# Altium footprint library PCB RADAR.PcbLib: 19 footprints (part 1 of 2)
Each footprint in its own frame and in the unit in brackets; x right, y up, seen from the top. Pads: shape width x height; smd on the part's side, far side on the other; paste and mask are expansions set on the pad; w line width, h text height; cw(c..) or ccw(c..) is an arc to the next point about the centre after c.
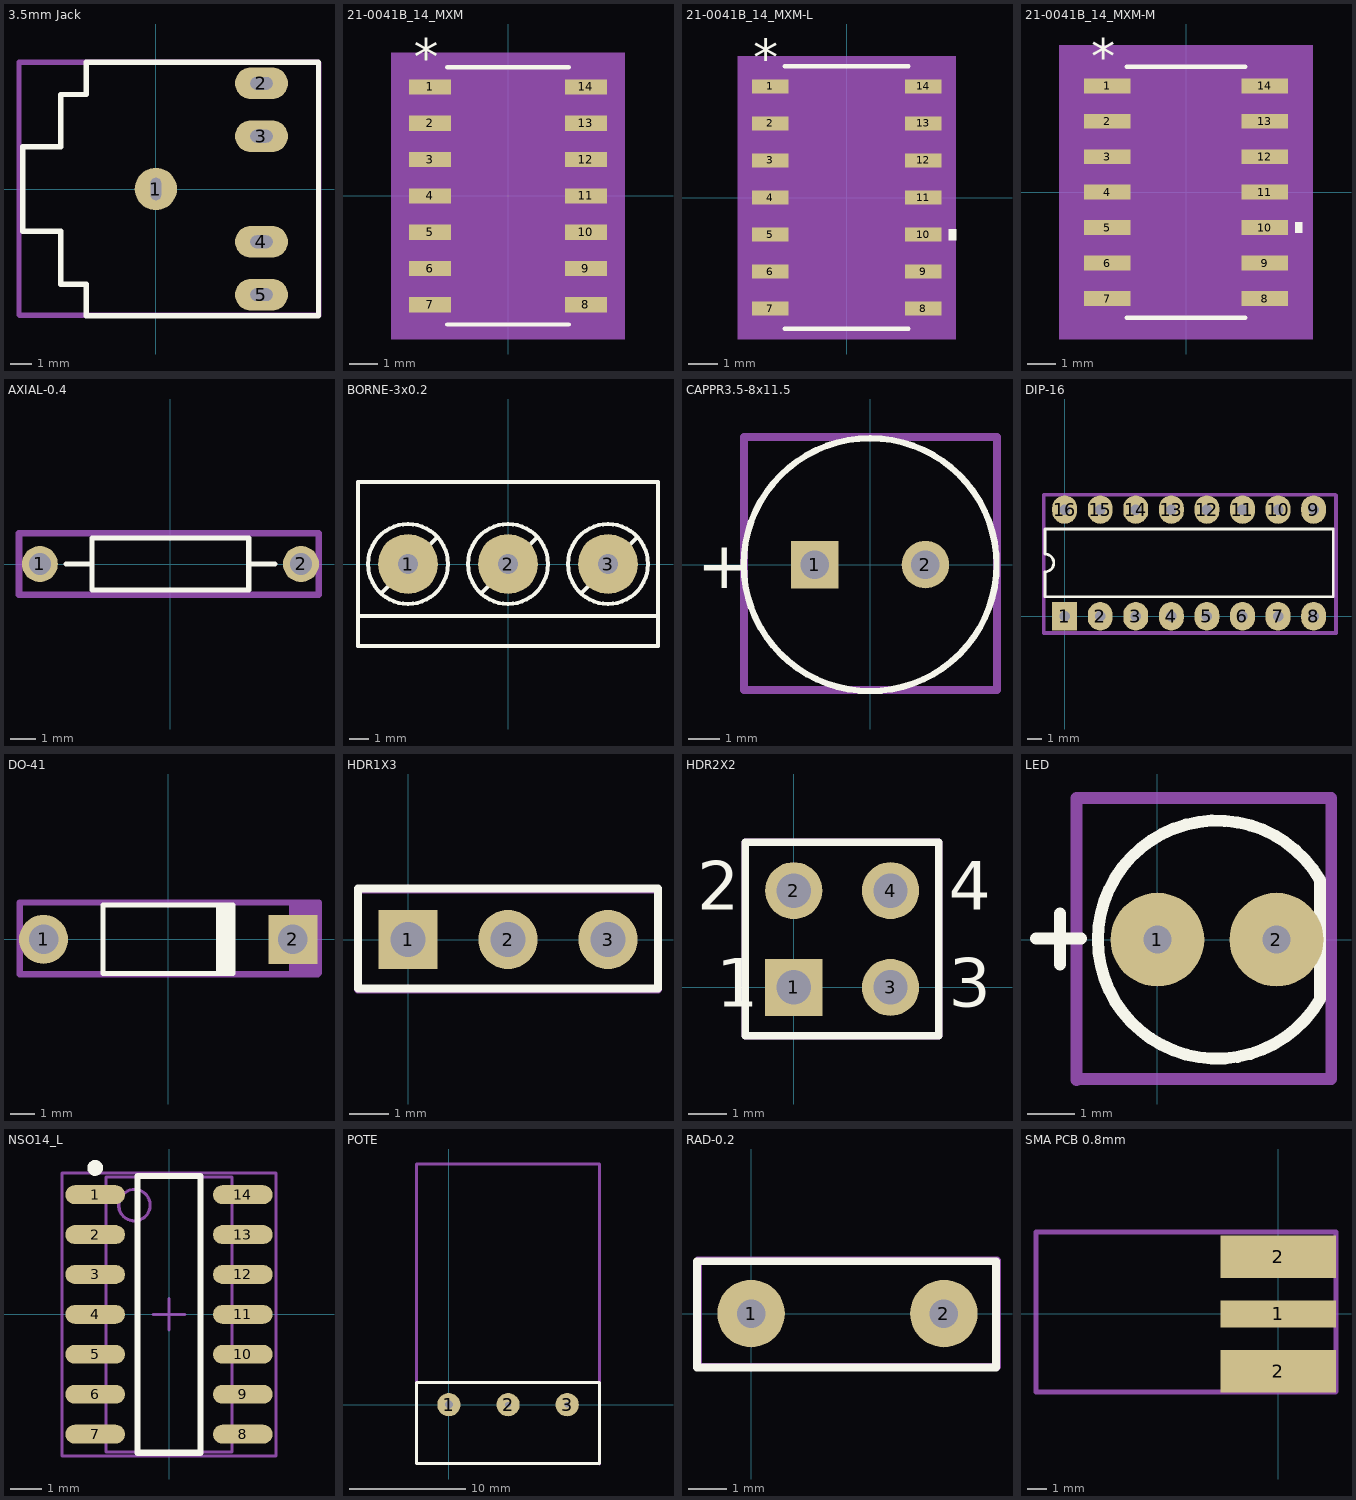
[diagram p0: the footprints below, top view; thin cyan lines are the x and y axes]

## 3.5mm Jack [mm] "stereo jack 3.5mm"
height 5
pads (5):
  round 2 hole 0.5 slot 1.05 at 90 deg: 1(0,0)
  oval 2.5x1.5 hole 0.6 slot 1.05 at 0 deg: 2(5,5) 3(5,2.5) 4(5,-2.5) 5(5,-5)
Top Overlay:
  lines w0.254: -3.3,4.475 -4.5,4.475 -4.5,2 -6.3,2 -6.3,-2 -4.5,-2 -4.5,-4.5 -3.3,-4.5 -3.3,-6 7.7,-6 7.7,6 -3.3,6 -3.3,4.5
Top Assembly (Mech29):
  lines w0.254: -6.477,-5.944 -6.452,-5.969 7.722,-5.969 7.722,5.944 7.671,5.994 -6.477,5.994 -6.477,-5.944
  text "'.Designator'" at 0,-1.956 h3
3D body "pj-307.step": height 6.51, standoff -2.19, extent -6.496,-6 7.504,6

## 21-0041B_14_MXM [mil]
pads (14):
  rect 57.5x21 smd paste+0 mask+0: 1(-107.25,150) 2(-107.25,100) 3(-107.25,50) 4(-107.25,0) 5(-107.25,-50) 6(-107.25,-100) 7(-107.25,-150) 8(107.25,-150) 9(107.25,-100) 10(107.25,-50) 11(107.25,0) 12(107.25,50) 13(107.25,100) 14(107.25,150)
Top Overlay:
  lines w6: -83.5,-177 83.5,-177 ; -83.5,177 83.5,177
  text "*" at -129.75,166 h50
Mechanical 5:
  region: 161,-197 -161,-197 -161,197 161,197
Mechanical 13:
  lines w0: -12,172 ccw(c0,172) 12,172
  lines w1: -122,-159.5 -78.5,-159.5 -78.5,-140.5 -122,-140.5 -122,-159.5 ; -122,-109.5 -78.5,-109.5 -78.5,-90.5 -122,-90.5 -122,-109.5 ; -122,-59.5 -78.5,-59.5 -78.5,-40.5 -122,-40.5 -122,-59.5 ; -122,-9.5 -78.5,-9.5 -78.5,9.5 -122,9.5 -122,-9.5 ; -122,40.5 -78.5,40.5 -78.5,59.5 -122,59.5 -122,40.5 ; -122,90.5 -78.5,90.5 -78.5,109.5 -122,109.5 -122,90.5 ; -122,140.5 -78.5,140.5 -78.5,159.5 -122,159.5 -122,140.5 ; -78.5,-172 -78.5,172 78.5,172 78.5,-172 -78.5,-172 ; 78.5,-159.5 122,-159.5 122,-140.5 78.5,-140.5 78.5,-159.5 ; 78.5,-109.5 122,-109.5 122,-90.5 78.5,-90.5 78.5,-109.5 ; 78.5,-59.5 122,-59.5 122,-40.5 78.5,-40.5 78.5,-59.5 ; 78.5,-9.5 122,-9.5 122,9.5 78.5,9.5 78.5,-9.5 ; 78.5,40.5 122,40.5 122,59.5 78.5,59.5 78.5,40.5 ; 78.5,90.5 122,90.5 122,109.5 78.5,109.5 78.5,90.5 ; 78.5,140.5 122,140.5 122,159.5 78.5,159.5 78.5,140.5
  text "*" at -76,119 h50
Mechanical 15:
  region: -88.5,-170.5 -146,-170.5 -146,170.5 -88.5,170.5 -88.5,182 88.5,182 88.5,170.5 146,170.5 146,-170.5 88.5,-170.5 88.5,-182 -88.5,-182
  lines w6: -146,-170.5 -88.5,-170.5 -88.5,-182 88.5,-182 88.5,-170.5 146,-170.5 146,170.5 88.5,170.5 88.5,182 -88.5,182 -88.5,170.5 -146,170.5 -146,-170.5
Top Assembly (Mech29):
  lines w10: -150,-185 145,-185 145,-170 145,175 -148,175 -150,173 -150,-185
  text "'.Designator'" at -85,100 h118.11
3D body "21-0041B_14_MXM.step": height 69.09, standoff 0, extent -122.01,-172.01 122.01,172.01

## 21-0041B_14_MXM-L [mil]
pads (14):
  rect 49.5x19 smd paste+0 mask+0: 1(-103.25,150) 2(-103.25,100) 3(-103.25,50) 4(-103.25,0) 5(-103.25,-50) 6(-103.25,-100) 7(-103.25,-150) 8(103.25,-150) 9(103.25,-100) 10(103.25,-50) 11(103.25,0) 12(103.25,50) 13(103.25,100) 14(103.25,150)
Top Overlay:
  region: 138,-42.5 148,-42.5 148,-57.5 138,-57.5
  lines w6: -83.5,-177 83.5,-177 ; -83.5,177 83.5,177
  text "*" at -125.75,164 h50
Mechanical 5:
  region: 147,-191 -147,-191 -147,191 147,191
Mechanical 13:
  lines w0: -12,172 ccw(c0,172) 12,172
  lines w1: -122,-159.5 -78.5,-159.5 -78.5,-140.5 -122,-140.5 -122,-159.5 ; -122,-109.5 -78.5,-109.5 -78.5,-90.5 -122,-90.5 -122,-109.5 ; -122,-59.5 -78.5,-59.5 -78.5,-40.5 -122,-40.5 -122,-59.5 ; -122,-9.5 -78.5,-9.5 -78.5,9.5 -122,9.5 -122,-9.5 ; -122,40.5 -78.5,40.5 -78.5,59.5 -122,59.5 -122,40.5 ; -122,90.5 -78.5,90.5 -78.5,109.5 -122,109.5 -122,90.5 ; -122,140.5 -78.5,140.5 -78.5,159.5 -122,159.5 -122,140.5 ; -78.5,-172 -78.5,172 78.5,172 78.5,-172 -78.5,-172 ; 78.5,-159.5 122,-159.5 122,-140.5 78.5,-140.5 78.5,-159.5 ; 78.5,-109.5 122,-109.5 122,-90.5 78.5,-90.5 78.5,-109.5 ; 78.5,-59.5 122,-59.5 122,-40.5 78.5,-40.5 78.5,-59.5 ; 78.5,-9.5 122,-9.5 122,9.5 78.5,9.5 78.5,-9.5 ; 78.5,40.5 122,40.5 122,59.5 78.5,59.5 78.5,40.5 ; 78.5,90.5 122,90.5 122,109.5 78.5,109.5 78.5,90.5 ; 78.5,140.5 122,140.5 122,159.5 78.5,159.5 78.5,140.5
  text "*" at -76,119 h50
Mechanical 15:
  region: -82.5,-163.5 -132,-163.5 -132,163.5 -82.5,163.5 -82.5,176 82.5,176 82.5,163.5 132,163.5 132,-163.5 82.5,-163.5 82.5,-176 -82.5,-176
  lines w6: -132,-163.5 -82.5,-163.5 -82.5,-176 82.5,-176 82.5,-163.5 132,-163.5 132,163.5 82.5,163.5 82.5,176 -82.5,176 -82.5,163.5 -132,163.5 -132,-163.5
3D body "21-0041B_14_MXM.step": height 69.09, standoff 0, extent -122.01,-172.01 122.01,172.01

## 21-0041B_14_MXM-M [mil]
pads (14):
  rect 65.5x21 smd paste+0 mask+0: 1(-111.25,150) 2(-111.25,100) 3(-111.25,50) 4(-111.25,0) 5(-111.25,-50) 6(-111.25,-100) 7(-111.25,-150) 8(111.25,-150) 9(111.25,-100) 10(111.25,-50) 11(111.25,0) 12(111.25,50) 13(111.25,100) 14(111.25,150)
Top Overlay:
  region: 154,-42.5 164,-42.5 164,-57.5 154,-57.5
  lines w6: -83.5,-177 83.5,-177 ; -83.5,177 83.5,177
  text "*" at -133.75,166 h50
Mechanical 5:
  region: 179,-207 -179,-207 -179,207 179,207
Mechanical 13:
  lines w0: -12,172 ccw(c0,172) 12,172
  lines w1: -122,-159.5 -78.5,-159.5 -78.5,-140.5 -122,-140.5 -122,-159.5 ; -122,-109.5 -78.5,-109.5 -78.5,-90.5 -122,-90.5 -122,-109.5 ; -122,-59.5 -78.5,-59.5 -78.5,-40.5 -122,-40.5 -122,-59.5 ; -122,-9.5 -78.5,-9.5 -78.5,9.5 -122,9.5 -122,-9.5 ; -122,40.5 -78.5,40.5 -78.5,59.5 -122,59.5 -122,40.5 ; -122,90.5 -78.5,90.5 -78.5,109.5 -122,109.5 -122,90.5 ; -122,140.5 -78.5,140.5 -78.5,159.5 -122,159.5 -122,140.5 ; -78.5,-172 -78.5,172 78.5,172 78.5,-172 -78.5,-172 ; 78.5,-159.5 122,-159.5 122,-140.5 78.5,-140.5 78.5,-159.5 ; 78.5,-109.5 122,-109.5 122,-90.5 78.5,-90.5 78.5,-109.5 ; 78.5,-59.5 122,-59.5 122,-40.5 78.5,-40.5 78.5,-59.5 ; 78.5,-9.5 122,-9.5 122,9.5 78.5,9.5 78.5,-9.5 ; 78.5,40.5 122,40.5 122,59.5 78.5,59.5 78.5,40.5 ; 78.5,90.5 122,90.5 122,109.5 78.5,109.5 78.5,90.5 ; 78.5,140.5 122,140.5 122,159.5 78.5,159.5 78.5,140.5
  text "*" at -76,119 h50
Mechanical 15:
  region: -98.5,-180.5 -164,-180.5 -164,180.5 -98.5,180.5 -98.5,192 98.5,192 98.5,180.5 164,180.5 164,-180.5 98.5,-180.5 98.5,-192 -98.5,-192
  lines w6: -164,-180.5 -98.5,-180.5 -98.5,-192 98.5,-192 98.5,-180.5 164,-180.5 164,180.5 98.5,180.5 98.5,192 -98.5,192 -98.5,180.5 -164,180.5 -164,-180.5
Top Assembly (Mech29):
  lines w10: -163,-181 165,-181 168,-181 168,181 167,182 -163,182 -163,-181
  text "'.Designator'" at -56,-29 h118.11
  text "." at -119,144 h118.11
3D body "21-0041B_14_MXM.step": height 69.09, standoff 0, extent -122.01,-172.01 122.01,172.01

## AXIAL-0.4 [mm]
pads (2):
  round 1.4 hole 0.85: 1(-5.08,0) 2(5.08,0)
Top Overlay:
  lines w0.2: -4.064,0 -3.048,0 ; 3.048,0 4.064,0 ; -3.048,-1.016 -3.048,1.016 3.048,1.016 3.048,-1.016 -3.048,-1.016
Top Assembly (Mech29):
  lines w0.254: -5.893,-1.194 -5.893,-1.143 -5.893,1.194 5.766,1.194 5.766,-1.194 -5.893,-1.194
  text "'.Designator'" at -2.413,-1.219 h3
3D body "User Library-Res40-Axial 0_25W-4_7K.STEP": height 2.4, standoff -2.01, extent -5.38,-1.2 5.38,1.2

## BORNE-3x0.2 [mil] "Triple borne para circuito impreso a tornillo, Pitch: 200mil (5.08mm), Largo cuerpo: 327mil (8.3mm)"
pads (3):
  round 120 hole 39.37: 1(-200,0) 2(0,0) 3(200,0)
Top Overlay:
  circle w7.87: c-200,0 r80
  circle w7.87: c200,0 r80
  circle w7.87: c0,0 r80
  lines w7.87: -300,-104 300,-104 ; -250,-55 -145,50 ; -50,-55 55,50 ; 150,-55 255,50 ; -300,-164 -300,164 300,164 300,-164 -300,-164
Top Assembly (Mech29):
  lines w7.87: -300,-164 -300,164 300,164 300,-164 -300,-164
  text "'.Designator'" at -186,-127 h118.11
  text "." at -207,-4 h196.85
3D body: height 50, standoff -50, extent -230,105 -230,105
3D body: height 50, standoff -50, extent -247.5,112.5 -247.5,112.5
3D body "User Library-3 Way PCB Screw Terminal Block 5mm.step": height 598.93, standoff -137.29, extent -295.59,-176.43 294.96,177.9

## CAPPR3.5-8x11.5 [mm]
pads (2):
  rect 1.5x1.5 hole 0.9: 1(-1.75,0)
  round 1.5 hole 0.9: 2(1.75,0)
Top Overlay:
  circle w0.2: c0,0 r4
  text "+" at -5.475,-0.75 h1.5
Top Assembly (Mech29):
  lines w0.254: -3.988,-3.962 4.013,-3.962 4.013,4.039 -3.988,4.039 -3.988,-3.962
  text "+" at -2.413,-0.914 h3
  text "'.Designator'" at -1.75,0 h3
3D body "User Library-Cap-EL(8x11_5-3_5).STEP": height 11.49, standoff -3.31, extent -4,-3.998 4.002,3.998

## DIP-16 [mil] "Dual In-line Package, 16 pines, Ancho cuerpo: 300mil (7.62 mm),  Pitch: 100mil (2.54 mm)"
pads (16):
  rect 70x80 hole 29.53: 1(0,0)
  oval 70x80 hole 29.53: 2(100,0) 3(200,0) 4(300,0) 5(400,0) 6(500,0) 7(600,0) 8(700,0) 9(700,300) 10(600,300) 11(500,300) 12(400,300) 13(300,300) 14(200,300) 15(100,300) 16(0,300)
Top Overlay:
  lines w7.87: -55.51,55 755.51,55 755.51,245 -55.51,245 -55.51,175 cw(c-55.51,150) -55.51,125 -55.51,55
Top Assembly (Mech29):
  lines w10: -59,-47 -59,342 761,342 763,340 763,-48 762,-47 -59,-47
  text "'.Designator'" at 380,57 h118.11
  text "." at -9,-10 h196.85
3D body "User Library-DIP-16P-M03.STEP": height 183.46, standoff -118.11, extent -31.88,-4.92 731.9,304.93

## DO-41 [mm]
pads (2):
  round 2 hole 1.2: 1(-5.08,0)
  rect 2x2 hole 1.2: 2(5.08,0)
Top Overlay:
  rectangle: 1.95,-1.4 2.75,1.4
  lines w0.2: 2.65,-1.4 -2.65,-1.4 -2.65,1.4 2.65,1.4
Top Assembly (Mech29):
  rectangle: 4.928,-1.473 6.147,1.499
  lines w0.254: -6.045,-1.422 -6.045,1.499 6.147,1.499 6.147,-1.372 6.096,-1.422 -6.045,-1.422
  text "'.Designator'" at -2.642,-1.549 h3
3D body "User Library-DO-41-40.STEP": height 2.53, standoff -2, extent -5.43,-1.201 5.43,1.201

## HDR1X3 [mm]
pads (3):
  rect 1.5x1.5 hole 0.9: 1(0,0)
  round 1.5 hole 0.9: 2(2.54,0) 3(5.08,0)
Top Overlay:
  lines w0.2: -1.27,-1.245 6.35,-1.245 6.35,1.295 -1.27,1.295 -1.27,-1.245
Top Assembly (Mech29):
  lines w0.2: -1.27,-1.27 -1.27,1.27 ; -1.27,-1.27 6.35,-1.27 ; -1.27,-1.27 -1.27,1.27 ; -1.27,-1.27 6.35,-1.27 ; -1.27,1.27 6.35,1.27 ; -1.27,1.27 6.35,1.27 ; 6.35,-1.27 6.35,1.27 ; 6.35,-1.27 6.35,1.27
  text "." at -0.152,-0.152 h3
  text "'.Designator'" at -0.533,-1.422 h3
3D body "User Library-1x3 TH Pitch 2_54mm.STEP": height 8.96, standoff -3.74, extent -1.27,-1.27 6.35,1.27

## HDR2X2 [mm]
pads (4):
  rect 1.5x1.5 hole 0.9: 1(0,0)
  round 1.5 hole 0.9: 2(0,2.54) 3(2.54,0) 4(2.54,2.54)
Top Overlay:
  lines w0.2: -1.27,-1.27 3.81,-1.27 3.81,3.81 -1.27,3.81 -1.27,-1.27
  text "3" at 4.064,-0.508 h1.27
  text "4" at 4.064,2.032 h1.27
  text "2" at -2.54,2.032 h1.27
  text "1" at -2.032,-0.508 h1.27
Top Assembly (Mech29):
  lines w0.2: -1.27,-1.27 -1.27,3.81 3.81,3.81 3.81,-1.27 -1.27,-1.27
  text "'.Designator'" at -0.965,-0.686 h3
3D body: height 1.27, standoff -1.27, extent -2.413,1.524 -2.413,1.524
3D body "87227-2.stp": height 10.38, standoff -3.17, extent -1.077,-1.277 3.593,3.803

## LED [mm]
pads (2):
  round 2 hole 0.6: 1(0,0) 2(2.54,0)
Top Overlay:
  lines w0.254: -2.591,0.025 -1.626,0.025 ; -2.083,-0.533 -2.083,0.559 ; 3.47,-1.27 cw(c1.27,0) 3.47,1.27 3.47,-1.27
Top Assembly (Mech29):
  lines w0.254: -1.727,-2.997 -1.702,-2.972 3.708,-2.972 3.708,3.023 -1.727,3.023 -1.727,-2.997
  text "'.Designator'" at -1.473,-1.778 h3
  text "+" at -1.702,-0.889 h3
3D body "SW3dPS-LEDd5G.STEP": height 8.61, standoff -6.19, extent -1.71,-3.01 3.711,3.01

## NSO14_L [mm] "SOIC, 14-Leads, Body 8.7x3.9mm, Pitch 1.27mm, IPC High Density"
height 1.75
pads (14):
  oval 1.9x0.6 smd: 1(-2.35,3.81) 2(-2.35,2.54) 3(-2.35,1.27) 4(-2.35,0) 5(-2.35,-1.27) 6(-2.35,-2.54) 7(-2.35,-3.81) 8(2.35,-3.81) 9(2.35,-2.54) 10(2.35,-1.27) 11(2.35,0) 12(2.35,1.27) 13(2.35,2.54) 14(2.35,3.81)
Top Overlay:
  circle w0.25: c-2.35,4.66 r0.125
  lines w0.2: -1,-4.4 1,-4.4 1,4.4 -1,4.4 -1,-4.4
Mechanical 13:
  circle w0.1: c-1.1,3.475 r0.5
  lines w0.1: -2,-4.375 2,-4.375 2,4.375 -2,4.375 -2,-4.375
Mechanical 15:
  lines w0.1: -0.5,0 0.5,0 ; 0,-0.5 0,0.5 ; -3.4,-4.5 3.4,-4.5 3.4,4.5 -3.4,4.5 -3.4,-4.5
3D body: height 1.75, standoff 0, extent -2,-4.375 2,4.375

## POTE [mm] "potenciómetro"
pads (3):
  round 2 hole 0.7: 1(0,0)
  round 2 hole 0.5: 2(5.08,0) 3(10.16,0)
Top Overlay:
  lines w0.254: -2.8,-5.05 12.95,-5.05 12.95,1.905 -2.8,1.905 -2.8,-5.05
Top Assembly (Mech29):
  lines w0.254: -2.8,-5.05 -2.8,20.676 12.95,20.676 12.95,-5.097 -2.8,-5.05
  text "'.Designator'" at -0.965,-4.064 h3
3D body "SW3dPS-Pot.STEP": height 20.14, standoff -4.5, extent -2.824,-4.95 12.924,20.608

## RAD-0.2 [mil]
pads (2):
  round 70 hole 29.53: 1(0,0) 2(200,0)
Top Overlay:
  lines w7.87: -56,-56 -56,54 99,54 254,54 254,-56 -56,-56
Top Assembly (Mech29):
  lines w7.87: -55,-55 255,-55 255,55 100,55 -55,55 -55,-55
  text "'.Designator'" at 13,-68 h118.11
3D body "User Library-Ceramic Disc Capacitor 0_2in pitch.STEP": height 275.59, standoff -59.06, extent -37.76,-33.38 237.81,33.41

## SMA PCB 0.8mm [mm]
pads (3):
  rect 6x1.4 smd: 1(0,0)
  rect 6x2.2 smd: 2(0,-2.975) 2(0,2.975)
Top Assembly (Mech29):
  lines w0.254: -12.598,4.267 -12.598,-4.064 2.972,-4.064 2.997,-4.039 2.997,4.267 -12.522,4.267
  text "'.Designator'" at -7.823,-0.889 h3
3D body "empcb_smafstj_b_ht.stp": height 3.57, standoff -2.79, extent -12.55,-3.176 0.75,3.176
3D body: height 22.91, standoff 16.56, extent -5.312,1.804 -5.312,1.804